# Altium footprint library SON50P300X200X60-9N.PcbLib: 1 footprints
Each footprint in its own frame and in the unit in brackets; x right, y up, seen from the top. Pads: shape width x height; smd on the part's side, far side on the other; paste and mask are expansions set on the pad; w line width, h text height; cw(c..) or ccw(c..) is an arc to the next point about the centre after c.
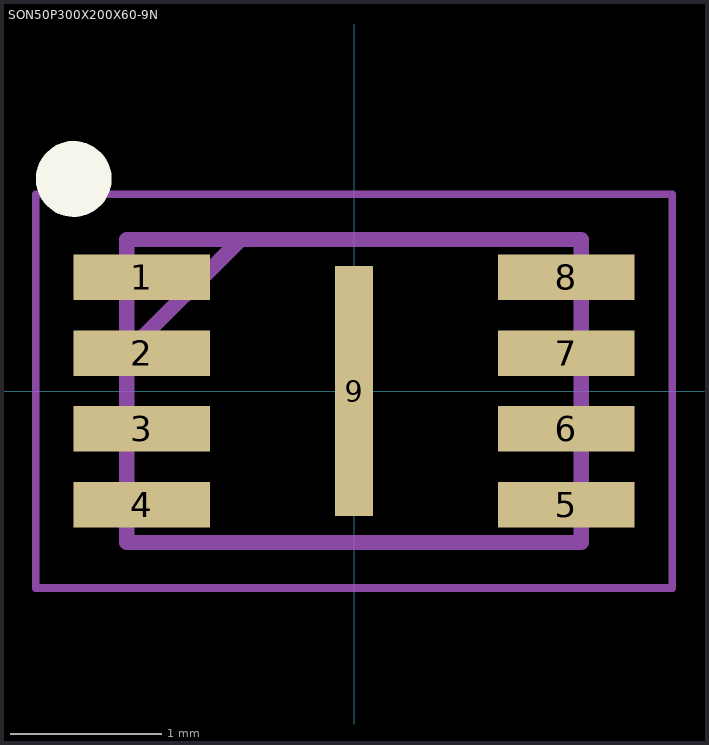
[diagram p0: the footprint, top view; thin cyan lines are the x and y axes]

## SON50P300X200X60-9N [mm]
pads (9):
  rect 0.9x0.3 smd: 1(-1.4,0.75) 2(-1.4,0.25) 3(-1.4,-0.25) 4(-1.4,-0.75) 5(1.4,-0.75) 6(1.4,-0.25) 7(1.4,0.25) 8(1.4,0.75)
  rect 0.25x1.65 smd: 9(0,0)
Top Overlay:
  circle w0.25: c-1.85,1.4 r0.125
Mechanical 15:
  lines w0.1: -1.5,0.25 -0.75,1 ; -1.5,-1 1.5,-1 1.5,1 -1.5,1 -1.5,-1
Mechanical 20:
  lines w0.05: -2.1,-1.3 2.1,-1.3 2.1,1.3 -2.1,1.3 -2.1,-1.3